# Altium integrated library STMicro-STM32F0.IntLib: 143 symbols (part 5 of 11)
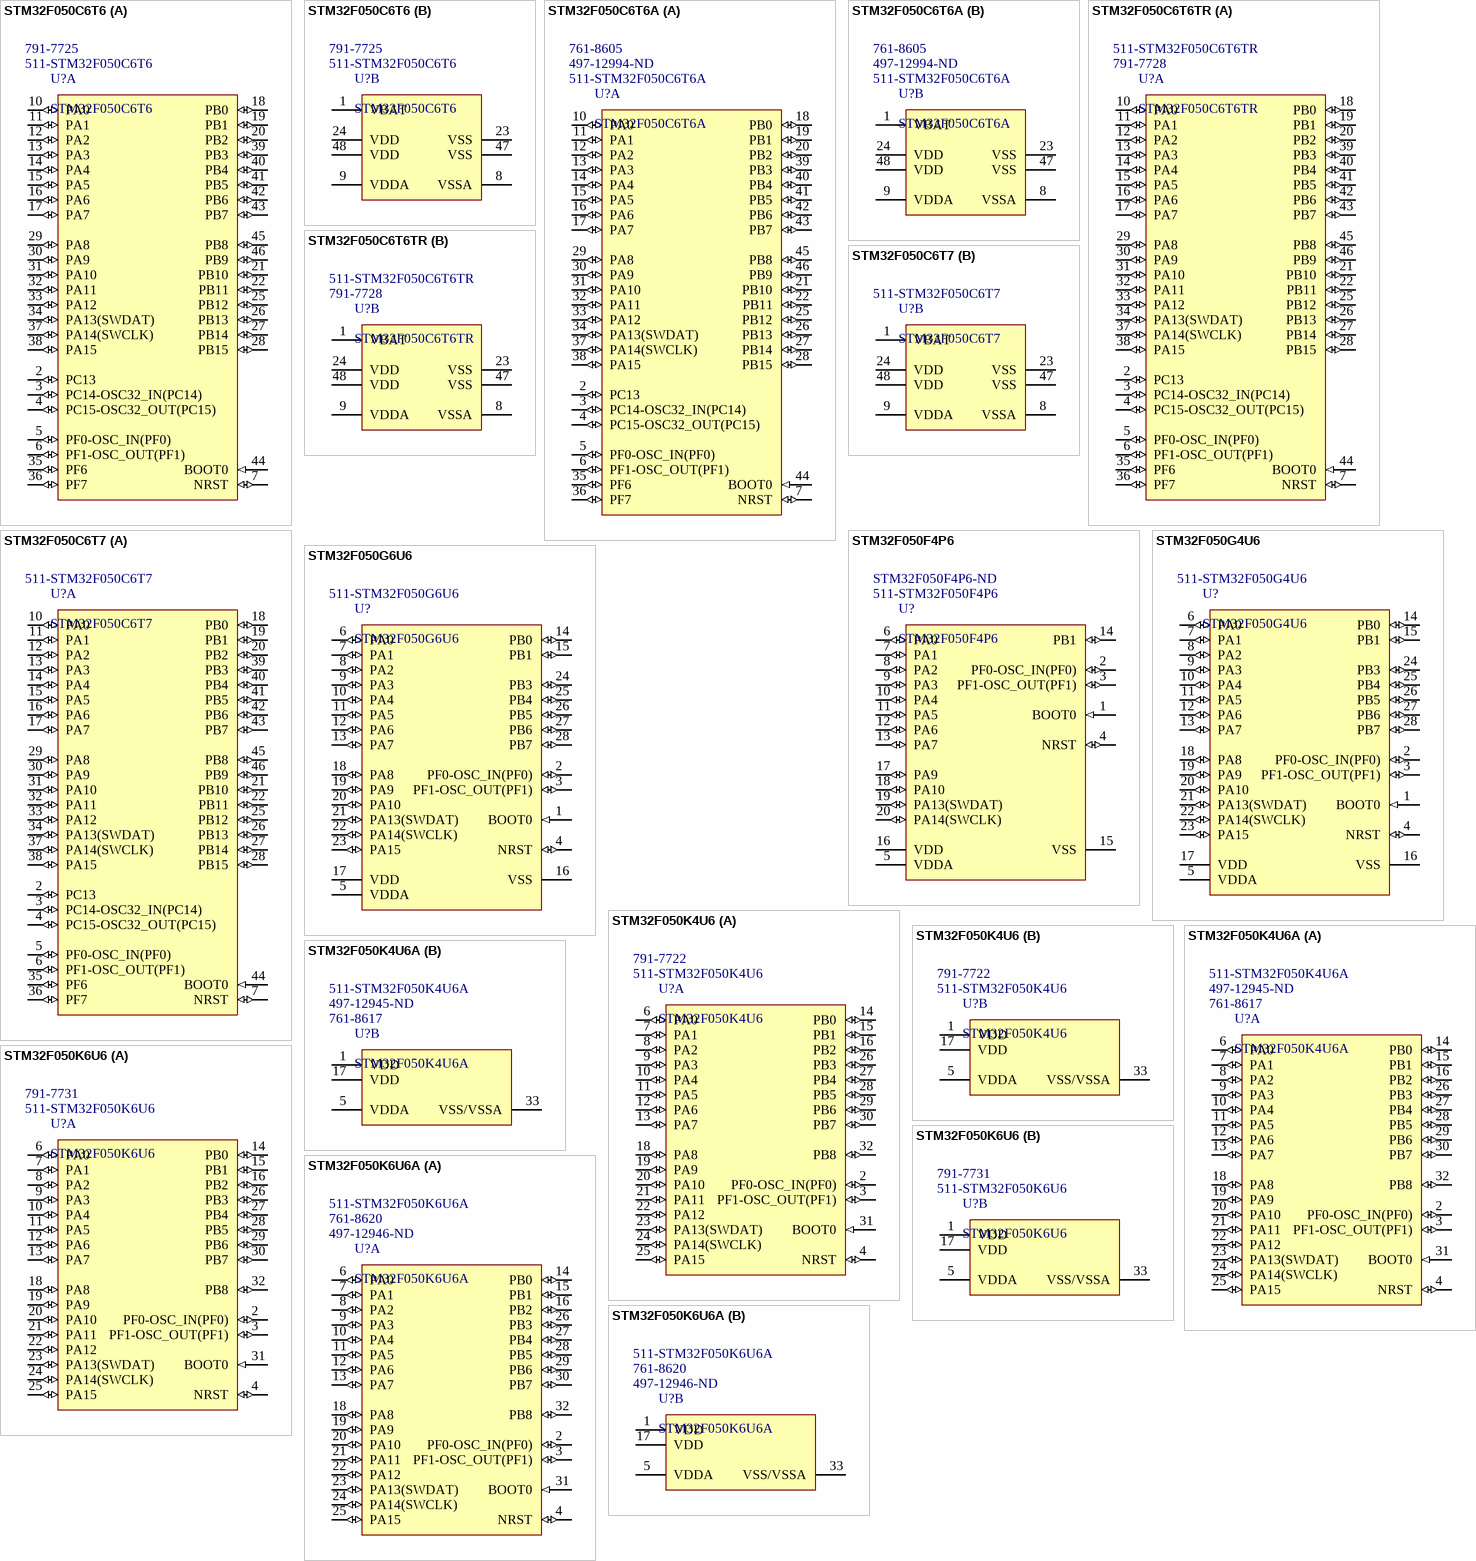
[diagram p18: symbols STM32F050C6T6 to STM32F050K6U6A]

## STM32F050C6T6TR
designator U?  Supplier Part Number 1: 791-7728  Supplier Part Number 2: 511-STM32F050C6T6TR
ARM Cortex-M0 32-bit MCU, 32 KB Flash, 4 KB Internal RAM, 39 I/Os, 48-pin LQFP, -40 to 85 degC, Tape and Reel; FLASH Size (Prog) (kB): 32; Internal RAM Size (kB): 4; Operating Frequency(F) (Processor speed) (MHz): 48; I/Os (High Current): 39; Supply Voltage(Vcc) min (V): 2; ComponentLink1Description: Manufacturer URL; Packing: Tape and Reel; ComponentLink3Description: Package Specification; PackageVersion: Rev. 6, 06/2013; Mounting Technology: Surface Mount; PackageDescription: 48-Pin Low Profile Quad Flat Package, 7 x 7 mm Body, 0.5 mm Pitch; ComponentLink2URL: http://www.st.com/st-web-ui/static/active/en/resource/technical/document/datasheet/DM00065136.pdf; ComponentLink2Description: Datasheet; ComponentLink3URL: http://www.st.com/st-web-ui/static/active/en/resource/technical/document/datasheet/DM00058181.pdf; ComponentLink1URL: http://www.st.com/web/en/home.html; Core: ARM Cortex-M0; PackageReference: LQFP48; DatasheetVersion: Rev. 1; PartNumber: STM32F050C6T6TR; Supplier 1: RSComponents; Supplier 2: Mouser
footprint STM-LQFP48_L (QFP, 48-Leads, Body 7x7mm, Pitch 0.5mm, IPC High Density)
footprint STM-LQFP48_N (QFP, 48-Leads, Body 7x7mm, Pitch 0.5mm, IPC Medium Density)
footprint STM-LQFP48_M (QFP, 48-Leads, Body 7x7mm, Pitch 0.5mm, IPC Low Density)
part A pins: 2 PC13 (io) "PC13/RTC_TAMP1,RTC_TS,RTC_OUT,WKUP2", 3 PC14-OSC32_IN(PC14) (io) "PC14-OSC32_IN(PC14)/OSC32_IN", 4 PC15-OSC32_OUT(PC15) (io) "PC15-OSC32_OUT(PC15)/OSC32_OUT", 5 PF0-OSC_IN(PF0) (io) "PF0-OSC_IN(PF0)/OSC_IN", 6 PF1-OSC_OUT(PF1) (io) "PF1-OSC_OUT(PF1)/OSC_OUT", 7 NRST (io) "Device reset input / internal reset output (active low)", 10 PA0 (io) "PA0/TIM2_CH1_ETR,USART1_CTS/ADC_IN0,RTC_TAMP2,WKUP1", 11 PA1 (io) "PA1/TIM2_CH2,EVENTOUT,USART1_RTS/ADC_IN1", 12 PA2 (io) "PA2/TIM2_CH3,USART1_TX/ADC_IN2", 13 PA3 (io) "PA3/TIM2_CH4,USART1_RX/ADC_IN3", 14 PA4 (io) "PA4/SPI1_NSS,I2S1_WS,TIM14_CH1,USART1_CK/ADC_IN4", 15 PA5 (io) "PA5/SPI1_SCK,I2S1_CK,TIM2_CH1_ETR/ADC_IN5", 16 PA6 (io) "PA6/SPI1_MISO,I2S1_MCK,TIM3_CH1,TIM1_BKIN,TIM16_CH1,EVENTOUT/ADC_IN6", 17 PA7 (io) "PA7/SPI1_MOSI,I2S1_SD,TIM3_CH2,TIM14_CH1,TIM1_CH1N,TIM17_CH1,EVENTOUT/ADC_IN7", 18 PB0 (io) "PB0/TIM3_CH3,TIM1_CH2N,EVENTOUT/ADC_IN8", 19 PB1 (io) "PB1/TIM3_CH4,TIM14_CH1,TIM1_CH3N/ADC_IN9", 20 PB2 (io), 21 PB10 (io) "PB10/TIM2_CH3,I2C1_SCL", 22 PB11 (io) "PB11/TIM2_CH4,EVENTOUT,I2C1_SDA", 25 PB12 (io) "PB12/TIM1_BKIN,EVENTOUT,SPI1_NSS", 26 PB13 (io) "PB13/TIM1_CH1N,SPI1_SCK", 27 PB14 (io) "PB14/TIM1_CH2N,SPI1_MISO", 28 PB15 (io) "PB15/TIM1_CH3N,SPI1_MOSI/RTC_REFIN", 29 PA8 (io) "PA8/USART1_CK,TIM1_CH1,EVENTOUT,MCO", 30 PA9 (io) "PA9/USART1_TX,TIM1_CH2,I2C1_SCL", 31 PA10 (io) "PA10/USART1_RX,TIM1_CH3,TIM17_BKIN,I2C1_SDA", 32 PA11 (io) "PA11/USART1_CTS,TIM1_CH4,EVENTOUT", 33 PA12 (io) "PA12/USART1_RTS,TIM1_ETR,EVENTOUT", 34 PA13(SWDAT) (io) "PA13(SWDAT)/IR_OUT,SWDAT", 35 PF6 (io) "PF6/I2C1_SCL", 36 PF7 (io) "PF7/I2C1_SDA", 37 PA14(SWCLK) (io) "PA14(SWCLK)/SWCLK,USART1_TX", 38 PA15 (io) "PA15/SPI1_NSS,I2S1_WS,TIM2_CH_ETR,EVENTOUT,USART1_RX", 39 PB3 (io) "PB3/SPI1_SCK,I2S1_CK,TIM2_CH2,EVENTOUT", 40 PB4 (io) "PB4/SPI1_MISO,I2S1_MCK,TIM3_CH1,EVENTOUT", 41 PB5 (io) "PB5/SPI1_MOSI,I2S1_SD,I2C1_SMBA,TIM16_BKIN,TIM3_CH2", 42 PB6 (io) "PB6/I2C1_SCL,USART1_TX,TIM16_CH1N", 43 PB7 (io) "PB7/I2C1_SDA,USART1_RX,TIM17_CH1N", 44 BOOT0 (in) "Boot memory selection", 45 PB8 (io) "PB8/I2C1_SCL,TIM16_CH1", 46 PB9 (io) "PB9/I2C1_SDA,IR_OUT,TIM17_CH1,EVENTOUT"
part B pins: 1 VBAT (power) "Backup power supply", 8 VSSA (power) "Analog ground", 9 VDDA (power) "Analog power supply", 23 VSS (power) "Ground", 24 VDD (power) "Digital power supply", 47 VSS (power) "Ground", 48 VDD (power) "Digital power supply"

## STM32F050C6T7
designator U?  Supplier Part Number 1: 511-STM32F050C6T7
ARM Cortex-M0 32-bit MCU, 32 KB Flash, 4 KB Internal RAM, 39 I/Os, 48-pin LQFP, -40 to 105 degC, Tray; Supply Voltage(Vcc) min (V): 2; FLASH Size (Prog) (kB): 32; I/Os (High Current): 39; Operating Frequency(F) (Processor speed) (MHz): 48; Internal RAM Size (kB): 4; ComponentLink2URL: http://www.st.com/st-web-ui/static/active/en/resource/technical/document/datasheet/DM00065136.pdf; ComponentLink1Description: Manufacturer URL; Packing: Tray; Mounting Technology: Surface Mount; DatasheetVersion: Rev. 1; PackageVersion: Rev. 6, 06/2013; PackageDescription: 48-Pin Low Profile Quad Flat Package, 7 x 7 mm Body, 0.5 mm Pitch; PartNumber: STM32F050C6T7; ComponentLink1URL: http://www.st.com/web/en/home.html; PackageReference: LQFP48; Core: ARM Cortex-M0; ComponentLink3URL: http://www.st.com/st-web-ui/static/active/en/resource/technical/document/datasheet/DM00058181.pdf; ComponentLink2Description: Datasheet; ComponentLink3Description: Package Specification; Supplier 1: Mouser
footprint STM-LQFP48_L (QFP, 48-Leads, Body 7x7mm, Pitch 0.5mm, IPC High Density)
footprint STM-LQFP48_N (QFP, 48-Leads, Body 7x7mm, Pitch 0.5mm, IPC Medium Density)
footprint STM-LQFP48_M (QFP, 48-Leads, Body 7x7mm, Pitch 0.5mm, IPC Low Density)
part A pins: 2 PC13 (io) "PC13/RTC_TAMP1,RTC_TS,RTC_OUT,WKUP2", 3 PC14-OSC32_IN(PC14) (io) "PC14-OSC32_IN(PC14)/OSC32_IN", 4 PC15-OSC32_OUT(PC15) (io) "PC15-OSC32_OUT(PC15)/OSC32_OUT", 5 PF0-OSC_IN(PF0) (io) "PF0-OSC_IN(PF0)/OSC_IN", 6 PF1-OSC_OUT(PF1) (io) "PF1-OSC_OUT(PF1)/OSC_OUT", 7 NRST (io) "Device reset input / internal reset output (active low)", 10 PA0 (io) "PA0/TIM2_CH1_ETR,USART1_CTS/ADC_IN0,RTC_TAMP2,WKUP1", 11 PA1 (io) "PA1/TIM2_CH2,EVENTOUT,USART1_RTS/ADC_IN1", 12 PA2 (io) "PA2/TIM2_CH3,USART1_TX/ADC_IN2", 13 PA3 (io) "PA3/TIM2_CH4,USART1_RX/ADC_IN3", 14 PA4 (io) "PA4/SPI1_NSS,I2S1_WS,TIM14_CH1,USART1_CK/ADC_IN4", 15 PA5 (io) "PA5/SPI1_SCK,I2S1_CK,TIM2_CH1_ETR/ADC_IN5", 16 PA6 (io) "PA6/SPI1_MISO,I2S1_MCK,TIM3_CH1,TIM1_BKIN,TIM16_CH1,EVENTOUT/ADC_IN6", 17 PA7 (io) "PA7/SPI1_MOSI,I2S1_SD,TIM3_CH2,TIM14_CH1,TIM1_CH1N,TIM17_CH1,EVENTOUT/ADC_IN7", 18 PB0 (io) "PB0/TIM3_CH3,TIM1_CH2N,EVENTOUT/ADC_IN8", 19 PB1 (io) "PB1/TIM3_CH4,TIM14_CH1,TIM1_CH3N/ADC_IN9", 20 PB2 (io), 21 PB10 (io) "PB10/TIM2_CH3,I2C1_SCL", 22 PB11 (io) "PB11/TIM2_CH4,EVENTOUT,I2C1_SDA", 25 PB12 (io) "PB12/TIM1_BKIN,EVENTOUT,SPI1_NSS", 26 PB13 (io) "PB13/TIM1_CH1N,SPI1_SCK", 27 PB14 (io) "PB14/TIM1_CH2N,SPI1_MISO", 28 PB15 (io) "PB15/TIM1_CH3N,SPI1_MOSI/RTC_REFIN", 29 PA8 (io) "PA8/USART1_CK,TIM1_CH1,EVENTOUT,MCO", 30 PA9 (io) "PA9/USART1_TX,TIM1_CH2,I2C1_SCL", 31 PA10 (io) "PA10/USART1_RX,TIM1_CH3,TIM17_BKIN,I2C1_SDA", 32 PA11 (io) "PA11/USART1_CTS,TIM1_CH4,EVENTOUT", 33 PA12 (io) "PA12/USART1_RTS,TIM1_ETR,EVENTOUT", 34 PA13(SWDAT) (io) "PA13(SWDAT)/IR_OUT,SWDAT", 35 PF6 (io) "PF6/I2C1_SCL", 36 PF7 (io) "PF7/I2C1_SDA", 37 PA14(SWCLK) (io) "PA14(SWCLK)/SWCLK,USART1_TX", 38 PA15 (io) "PA15/SPI1_NSS,I2S1_WS,TIM2_CH_ETR,EVENTOUT,USART1_RX", 39 PB3 (io) "PB3/SPI1_SCK,I2S1_CK,TIM2_CH2,EVENTOUT", 40 PB4 (io) "PB4/SPI1_MISO,I2S1_MCK,TIM3_CH1,EVENTOUT", 41 PB5 (io) "PB5/SPI1_MOSI,I2S1_SD,I2C1_SMBA,TIM16_BKIN,TIM3_CH2", 42 PB6 (io) "PB6/I2C1_SCL,USART1_TX,TIM16_CH1N", 43 PB7 (io) "PB7/I2C1_SDA,USART1_RX,TIM17_CH1N", 44 BOOT0 (in) "Boot memory selection", 45 PB8 (io) "PB8/I2C1_SCL,TIM16_CH1", 46 PB9 (io) "PB9/I2C1_SDA,IR_OUT,TIM17_CH1,EVENTOUT"
part B pins: 1 VBAT (power) "Backup power supply", 8 VSSA (power) "Analog ground", 9 VDDA (power) "Analog power supply", 23 VSS (power) "Ground", 24 VDD (power) "Digital power supply", 47 VSS (power) "Ground", 48 VDD (power) "Digital power supply"

## STM32F050F4P6
designator U?  Supplier Part Number 1: 511-STM32F050F4P6  Supplier Part Number 2: STM32F050F4P6-ND
ARM Cortex-M0 32-bit MCU, 16 KB Flash, 4 KB Internal RAM, 15 I/Os, 20-pin TSSOP, -40 to 85 degC, Tube; Supply Voltage(Vcc) min (V): 2; Internal RAM Size (kB): 4; I/Os (High Current): 15; Operating Frequency(F) (Processor speed) (MHz): 48; FLASH Size (Prog) (kB): 16; ComponentLink2Description: Datasheet; PackageDescription: 20-Pin Thin Shrink Small Outline Package, 6.5 x 4.4 mm Body, 0.65 mm Pitch; ComponentLink1Description: Manufacturer URL; Packing: Tube; DatasheetVersion: Rev. 1; Mounting Technology: Surface Mount; ComponentLink3Description: Package Specification; PartNumber: STM32F050F4P6; PackageVersion: Rev. 1, 11/2012; Core: ARM Cortex-M0; ComponentLink3URL: http://www.st.com/st-web-ui/static/active/en/resource/technical/document/datasheet/DM00065136.pdf; PackageReference: TSSOP20; ComponentLink2URL: http://www.st.com/st-web-ui/static/active/en/resource/technical/document/datasheet/DM00065136.pdf; ComponentLink1URL: http://www.st.com/web/en/home.html; Supplier 1: Mouser; Supplier 2: Digi-Key
footprint STM-TSSOP20_M (SOP, 20-Leads, Body 6.6x4.5mm, Pitch 0.65mm, IPC Low Density)
footprint STM-TSSOP20_L (SOP, 20-Leads, Body 6.6x4.5mm, Pitch 0.65mm, IPC High Density)
footprint STM-TSSOP20_N (SOP, 20-Leads, Body 6.6x4.5mm, Pitch 0.65mm, IPC Medium Density)
pins: 1 BOOT0 (in) "Boot memory selection", 2 PF0-OSC_IN(PF0) (io) "PF0-OSC_IN(PF0)/OSC_IN", 3 PF1-OSC_OUT(PF1) (io) "PF1-OSC_OUT(PF1)/OSC_OUT", 4 NRST (io) "Device reset input / internal reset output (active low)", 5 VDDA (power) "Analog power supply", 6 PA0 (io) "PA0/TIM2_CH1_ETR,USART1_CTS/ADC_IN0,RTC_TAMP2,WKUP1", 7 PA1 (io) "PA1/TIM2_CH2,EVENTOUT,USART1_RTS/ADC_IN1", 8 PA2 (io) "PA2/TIM2_CH3,USART1_TX/ADC_IN2", 9 PA3 (io) "PA3/TIM2_CH4,USART1_RX/ADC_IN3", 10 PA4 (io) "PA4/SPI1_NSS,I2S1_WS,TIM14_CH1,USART1_CK/ADC_IN4", 11 PA5 (io) "PA5/SPI1_SCK,I2S1_CK,TIM2_CH1_ETR/ADC_IN5", 12 PA6 (io) "PA6/SPI1_MISO,I2S1_MCK,TIM3_CH1,TIM1_BKIN,TIM16_CH1,EVENTOUT/ADC_IN6", 13 PA7 (io) "PA7/SPI1_MOSI,I2S1_SD,TIM3_CH2,TIM14_CH1,TIM1_CH1N,TIM17_CH1,EVENTOUT/ADC_IN7", 14 PB1 (io) "PB1/TIM3_CH4,TIM14_CH1,TIM1_CH3N/ADC_IN9", 15 VSS (power) "Ground", 16 VDD (power) "Digital power supply", 17 PA9 (io) "PA9/USART1_TX,TIM1_CH2,I2C1_SCL", 18 PA10 (io) "PA10/USART1_RX,TIM1_CH3,TIM17_BKIN,I2C1_SDA", 19 PA13(SWDAT) (io) "PA13(SWDAT)/IR_OUT,SWDAT", 20 PA14(SWCLK) (io) "PA14(SWCLK)/SWCLK,USART1_TX"

## STM32F050G4U6
designator U?  Supplier Part Number 1: 511-STM32F050G4U6
ARM Cortex-M0 32-bit MCU, 16 KB Flash, 4 KB Internal RAM, 23 I/Os, 28-pin UFQFPN, -40 to 85 degC, Tray; Internal RAM Size (kB): 4; FLASH Size (Prog) (kB): 16; Operating Frequency(F) (Processor speed) (MHz): 48; I/Os (High Current): 23; Supply Voltage(Vcc) min (V): 2; ComponentLink2URL: http://www.st.com/st-web-ui/static/active/en/resource/technical/document/datasheet/DM00065136.pdf; DatasheetVersion: Rev. 1; ComponentLink3URL: http://www.st.com/st-web-ui/static/active/en/resource/technical/document/datasheet/DM00065136.pdf; Packing: Tray; PackageVersion: Rev. 1, 11/2012; PackageDescription: 28-Pin Ultra Thin Fine Pitch Quad Flat No-Lead, 4 x 4 x 0.6 mm Body, 0.5 mm Pitch; Core: ARM Cortex-M0; ComponentLink2Description: Datasheet; ComponentLink1URL: http://www.st.com/web/en/home.html; ComponentLink3Description: Package Specification; PackageReference: UFQFPN28; Mounting Technology: Surface Mount; PartNumber: STM32F050G4U6; ComponentLink1Description: Manufacturer URL; Supplier 1: Mouser
footprint STM-UFQFPN28_V (QFN, 28-Leads, Body 4.1x4.1mm, Pitch 0.5mm)
pins: 1 BOOT0 (in) "Boot memory selection", 2 PF0-OSC_IN(PF0) (io) "PF0-OSC_IN(PF0)/OSC_IN", 3 PF1-OSC_OUT(PF1) (io) "PF1-OSC_OUT(PF1)/OSC_OUT", 4 NRST (io) "Device reset input / internal reset output (active low)", 5 VDDA (power) "Analog power supply", 6 PA0 (io) "PA0/TIM2_CH1_ETR,USART1_CTS/ADC_IN0,RTC_TAMP2,WKUP1", 7 PA1 (io) "PA1/TIM2_CH2,EVENTOUT,USART1_RTS/ADC_IN1", 8 PA2 (io) "PA2/TIM2_CH3,USART1_TX/ADC_IN2", 9 PA3 (io) "PA3/TIM2_CH4,USART1_RX/ADC_IN3", 10 PA4 (io) "PA4/SPI1_NSS,I2S1_WS,TIM14_CH1,USART1_CK/ADC_IN4", 11 PA5 (io) "PA5/SPI1_SCK,I2S1_CK,TIM2_CH1_ETR/ADC_IN5", 12 PA6 (io) "PA6/SPI1_MISO,I2S1_MCK,TIM3_CH1,TIM1_BKIN,TIM16_CH1,EVENTOUT/ADC_IN6", 13 PA7 (io) "PA7/SPI1_MOSI,I2S1_SD,TIM3_CH2,TIM14_CH1,TIM1_CH1N,TIM17_CH1,EVENTOUT/ADC_IN7", 14 PB0 (io) "PB0/TIM3_CH3,TIM1_CH2N,EVENTOUT/ADC_IN8", 15 PB1 (io) "PB1/TIM3_CH4,TIM14_CH1,TIM1_CH3N/ADC_IN9", 16 VSS (power) "Ground", 17 VDD (power) "Digital power supply", 18 PA8 (io) "PA8/USART1_CK,TIM1_CH1,EVENTOUT,MCO", 19 PA9 (io) "PA9/USART1_TX,TIM1_CH2,I2C1_SCL", 20 PA10 (io) "PA10/USART1_RX,TIM1_CH3,TIM17_BKIN,I2C1_SDA", 21 PA13(SWDAT) (io) "PA13(SWDAT)/IR_OUT,SWDAT", 22 PA14(SWCLK) (io) "PA14(SWCLK)/SWCLK,USART1_TX", 23 PA15 (io) "PA15/SPI1_NSS,I2S1_WS,TIM2_CH_ETR,EVENTOUT,USART1_RX", 24 PB3 (io) "PB3/SPI1_SCK,I2S1_CK,TIM2_CH2,EVENTOUT", 25 PB4 (io) "PB4/SPI1_MISO,I2S1_MCK,TIM3_CH1,EVENTOUT", 26 PB5 (io) "PB5/SPI1_MOSI,I2S1_SD,I2C1_SMBA,TIM16_BKIN,TIM3_CH2", 27 PB6 (io) "PB6/I2C1_SCL,USART1_TX,TIM16_CH1N", 28 PB7 (io) "PB7/I2C1_SDA,USART1_RX,TIM17_CH1N"

## STM32F050G6U6
designator U?  Supplier Part Number 1: 511-STM32F050G6U6
ARM Cortex-M0 32-bit MCU, 32 KB Flash, 4 KB Internal RAM, 23 I/Os, 28-pin UFQFPN, -40 to 85 degC, Tray; Supply Voltage(Vcc) min (V): 2; Internal RAM Size (kB): 4; Operating Frequency(F) (Processor speed) (MHz): 48; FLASH Size (Prog) (kB): 32; I/Os (High Current): 23; ComponentLink1URL: http://www.st.com/web/en/home.html; Mounting Technology: Surface Mount; PackageDescription: 28-Pin Ultra Thin Fine Pitch Quad Flat No-Lead, 4 x 4 x 0.6 mm Body, 0.5 mm Pitch; PackageVersion: Rev. 1, 11/2012; Packing: Tray; ComponentLink1Description: Manufacturer URL; ComponentLink3Description: Package Specification; PackageReference: UFQFPN28; Core: ARM Cortex-M0; ComponentLink2Description: Datasheet; ComponentLink2URL: http://www.st.com/st-web-ui/static/active/en/resource/technical/document/datasheet/DM00065136.pdf; ComponentLink3URL: http://www.st.com/st-web-ui/static/active/en/resource/technical/document/datasheet/DM00065136.pdf; PartNumber: STM32F050G6U6; DatasheetVersion: Rev. 1; Supplier 1: Mouser
footprint STM-UFQFPN28_V (QFN, 28-Leads, Body 4.1x4.1mm, Pitch 0.5mm)
pins: 1 BOOT0 (in) "Boot memory selection", 2 PF0-OSC_IN(PF0) (io) "PF0-OSC_IN(PF0)/OSC_IN", 3 PF1-OSC_OUT(PF1) (io) "PF1-OSC_OUT(PF1)/OSC_OUT", 4 NRST (io) "Device reset input / internal reset output (active low)", 5 VDDA (power) "Analog power supply", 6 PA0 (io) "PA0/TIM2_CH1_ETR,USART1_CTS/ADC_IN0,RTC_TAMP2,WKUP1", 7 PA1 (io) "PA1/TIM2_CH2,EVENTOUT,USART1_RTS/ADC_IN1", 8 PA2 (io) "PA2/TIM2_CH3,USART1_TX/ADC_IN2", 9 PA3 (io) "PA3/TIM2_CH4,USART1_RX/ADC_IN3", 10 PA4 (io) "PA4/SPI1_NSS,I2S1_WS,TIM14_CH1,USART1_CK/ADC_IN4", 11 PA5 (io) "PA5/SPI1_SCK,I2S1_CK,TIM2_CH1_ETR/ADC_IN5", 12 PA6 (io) "PA6/SPI1_MISO,I2S1_MCK,TIM3_CH1,TIM1_BKIN,TIM16_CH1,EVENTOUT/ADC_IN6", 13 PA7 (io) "PA7/SPI1_MOSI,I2S1_SD,TIM3_CH2,TIM14_CH1,TIM1_CH1N,TIM17_CH1,EVENTOUT/ADC_IN7", 14 PB0 (io) "PB0/TIM3_CH3,TIM1_CH2N,EVENTOUT/ADC_IN8", 15 PB1 (io) "PB1/TIM3_CH4,TIM14_CH1,TIM1_CH3N/ADC_IN9", 16 VSS (power) "Ground", 17 VDD (power) "Digital power supply", 18 PA8 (io) "PA8/USART1_CK,TIM1_CH1,EVENTOUT,MCO", 19 PA9 (io) "PA9/USART1_TX,TIM1_CH2,I2C1_SCL", 20 PA10 (io) "PA10/USART1_RX,TIM1_CH3,TIM17_BKIN,I2C1_SDA", 21 PA13(SWDAT) (io) "PA13(SWDAT)/IR_OUT,SWDAT", 22 PA14(SWCLK) (io) "PA14(SWCLK)/SWCLK,USART1_TX", 23 PA15 (io) "PA15/SPI1_NSS,I2S1_WS,TIM2_CH_ETR,EVENTOUT,USART1_RX", 24 PB3 (io) "PB3/SPI1_SCK,I2S1_CK,TIM2_CH2,EVENTOUT", 25 PB4 (io) "PB4/SPI1_MISO,I2S1_MCK,TIM3_CH1,EVENTOUT", 26 PB5 (io) "PB5/SPI1_MOSI,I2S1_SD,I2C1_SMBA,TIM16_BKIN,TIM3_CH2", 27 PB6 (io) "PB6/I2C1_SCL,USART1_TX,TIM16_CH1N", 28 PB7 (io) "PB7/I2C1_SDA,USART1_RX,TIM17_CH1N"

## STM32F050K4U6
designator U?  Supplier Part Number 1: 511-STM32F050K4U6  Supplier Part Number 2: 791-7722
ARM Cortex-M0 32-bit MCU, 16 KB Flash, 4 KB Internal RAM, 27 I/Os, 32-pin UFQFPN, -40 to 85 degC, Tray; FLASH Size (Prog) (kB): 16; Supply Voltage(Vcc) min (V): 2; I/Os (High Current): 27; Internal RAM Size (kB): 4; Operating Frequency(F) (Processor speed) (MHz): 48; ComponentLink1Description: Manufacturer URL; DatasheetVersion: Rev. 1; ComponentLink1URL: http://www.st.com/web/en/home.html; PackageDescription: 32-Pin Ultra Thin Fine Pitch Quad Flat No-Lead, 5 x 5 x 0.6 mm Body, 0.5 mm Pitch, Exposed Pad; ComponentLink3URL: http://www.st.com/st-web-ui/static/active/en/resource/technical/document/datasheet/DM00039193.pdf; Packing: Tray; ComponentLink3Description: Package Specification; PartNumber: STM32F050K4U6; ComponentLink2Description: Datasheet; Mounting Technology: Surface Mount; ComponentLink2URL: http://www.st.com/st-web-ui/static/active/en/resource/technical/document/datasheet/DM00065136.pdf; PackageReference: UFQFPN32; PackageVersion: Rev. 3, 07/2012; Core: ARM Cortex-M0; Supplier 1: Mouser; Supplier 2: RSComponents
footprint STM-UFQFPN32_N (QFN, 32-Leads, Body 5.1x5.1mm, Pitch 0.5mm, Thermal Pad 3.5x3.5mm, IPC Medium Density)
footprint STM-UFQFPN32_L (QFN, 32-Leads, Body 5.1x5.1mm, Pitch 0.5mm, Thermal Pad 3.5x3.5mm, IPC High Density)
footprint STM-UFQFPN32_M (QFN, 32-Leads, Body 5.1x5.1mm, Pitch 0.5mm, Thermal Pad 3.5x3.5mm, IPC Low Density)
part A pins: 2 PF0-OSC_IN(PF0) (io) "PF0-OSC_IN(PF0)/OSC_IN", 3 PF1-OSC_OUT(PF1) (io) "PF1-OSC_OUT(PF1)/OSC_OUT", 4 NRST (io) "Device reset input / internal reset output (active low)", 6 PA0 (io) "PA0/TIM2_CH1_ETR,USART1_CTS/ADC_IN0,RTC_TAMP2,WKUP1", 7 PA1 (io) "PA1/TIM2_CH2,EVENTOUT,USART1_RTS/ADC_IN1", 8 PA2 (io) "PA2/TIM2_CH3,USART1_TX/ADC_IN2", 9 PA3 (io) "PA3/TIM2_CH4,USART1_RX/ADC_IN3", 10 PA4 (io) "PA4/SPI1_NSS,I2S1_WS,TIM14_CH1,USART1_CK/ADC_IN4", 11 PA5 (io) "PA5/SPI1_SCK,I2S1_CK,TIM2_CH1_ETR/ADC_IN5", 12 PA6 (io) "PA6/SPI1_MISO,I2S1_MCK,TIM3_CH1,TIM1_BKIN,TIM16_CH1,EVENTOUT/ADC_IN6", 13 PA7 (io) "PA7/SPI1_MOSI,I2S1_SD,TIM3_CH2,TIM14_CH1,TIM1_CH1N,TIM17_CH1,EVENTOUT/ADC_IN7", 14 PB0 (io) "PB0/TIM3_CH3,TIM1_CH2N,EVENTOUT/ADC_IN8", 15 PB1 (io) "PB1/TIM3_CH4,TIM14_CH1,TIM1_CH3N/ADC_IN9", 16 PB2 (io), 18 PA8 (io) "PA8/USART1_CK,TIM1_CH1,EVENTOUT,MCO", 19 PA9 (io) "PA9/USART1_TX,TIM1_CH2,I2C1_SCL", 20 PA10 (io) "PA10/USART1_RX,TIM1_CH3,TIM17_BKIN,I2C1_SDA", 21 PA11 (io) "PA11/USART1_CTS,TIM1_CH4,EVENTOUT", 22 PA12 (io) "PA12/USART1_RTS,TIM1_ETR,EVENTOUT", 23 PA13(SWDAT) (io) "PA13(SWDAT)/IR_OUT,SWDAT", 24 PA14(SWCLK) (io) "PA14(SWCLK)/SWCLK,USART1_TX", 25 PA15 (io) "PA15/SPI1_NSS,I2S1_WS,TIM2_CH_ETR,EVENTOUT,USART1_RX", 26 PB3 (io) "PB3/SPI1_SCK,I2S1_CK,TIM2_CH2,EVENTOUT", 27 PB4 (io) "PB4/SPI1_MISO,I2S1_MCK,TIM3_CH1,EVENTOUT", 28 PB5 (io) "PB5/SPI1_MOSI,I2S1_SD,I2C1_SMBA,TIM16_BKIN,TIM3_CH2", 29 PB6 (io) "PB6/I2C1_SCL,USART1_TX,TIM16_CH1N", 30 PB7 (io) "PB7/I2C1_SDA,USART1_RX,TIM17_CH1N", 31 BOOT0 (in) "Boot memory selection", 32 PB8 (io) "PB8/I2C1_SCL,TIM16_CH1"
part B pins: 1 VDD (power) "Digital power supply", 5 VDDA (power) "Analog power supply", 17 VDD (power) "Digital power supply", 33 VSS/VSSA (power)

## STM32F050K4U6A
designator U?  Supplier Part Number 1: 761-8617  Supplier Part Number 2: 497-12945-ND  Supplier Part Number 3: 511-STM32F050K4U6A
ARM Cortex-M0 32-bit MCU, 16 KB Flash, 4 KB Internal RAM, 27 I/Os, 32-pin UFQFPN, -40 to 85 degC, Tray; I/Os (High Current): 27; Internal RAM Size (kB): 4; FLASH Size (Prog) (kB): 16; Operating Frequency(F) (Processor speed) (MHz): 48; Supply Voltage(Vcc) min (V): 2; PartNumber: STM32F050K4U6A; PackageVersion: Rev. 3, 07/2012; ComponentLink2Description: Datasheet; ComponentLink2URL: http://www.st.com/st-web-ui/static/active/en/resource/technical/document/datasheet/DM00065136.pdf; ComponentLink1Description: Manufacturer URL; Mounting Technology: Surface Mount; ComponentLink3Description: Package Specification; ComponentLink1URL: http://www.st.com/web/en/home.html; PackageReference: UFQFPN32; ComponentLink3URL: http://www.st.com/st-web-ui/static/active/en/resource/technical/document/datasheet/DM00039193.pdf; Packing: Tray; DatasheetVersion: Rev. 1; Core: ARM Cortex-M0; PackageDescription: 32-Pin Ultra Thin Fine Pitch Quad Flat No-Lead, 5 x 5 x 0.6 mm Body, 0.5 mm Pitch, Exposed Pad; Supplier 1: RSComponents; Supplier 2: Digi-Key; Supplier 3: Mouser
footprint STM-UFQFPN32_N (QFN, 32-Leads, Body 5.1x5.1mm, Pitch 0.5mm, Thermal Pad 3.5x3.5mm, IPC Medium Density)
footprint STM-UFQFPN32_L (QFN, 32-Leads, Body 5.1x5.1mm, Pitch 0.5mm, Thermal Pad 3.5x3.5mm, IPC High Density)
footprint STM-UFQFPN32_M (QFN, 32-Leads, Body 5.1x5.1mm, Pitch 0.5mm, Thermal Pad 3.5x3.5mm, IPC Low Density)
part A pins: 2 PF0-OSC_IN(PF0) (io) "PF0-OSC_IN(PF0)/OSC_IN", 3 PF1-OSC_OUT(PF1) (io) "PF1-OSC_OUT(PF1)/OSC_OUT", 4 NRST (io) "Device reset input / internal reset output (active low)", 6 PA0 (io) "PA0/TIM2_CH1_ETR,USART1_CTS/ADC_IN0,RTC_TAMP2,WKUP1", 7 PA1 (io) "PA1/TIM2_CH2,EVENTOUT,USART1_RTS/ADC_IN1", 8 PA2 (io) "PA2/TIM2_CH3,USART1_TX/ADC_IN2", 9 PA3 (io) "PA3/TIM2_CH4,USART1_RX/ADC_IN3", 10 PA4 (io) "PA4/SPI1_NSS,I2S1_WS,TIM14_CH1,USART1_CK/ADC_IN4", 11 PA5 (io) "PA5/SPI1_SCK,I2S1_CK,TIM2_CH1_ETR/ADC_IN5", 12 PA6 (io) "PA6/SPI1_MISO,I2S1_MCK,TIM3_CH1,TIM1_BKIN,TIM16_CH1,EVENTOUT/ADC_IN6", 13 PA7 (io) "PA7/SPI1_MOSI,I2S1_SD,TIM3_CH2,TIM14_CH1,TIM1_CH1N,TIM17_CH1,EVENTOUT/ADC_IN7", 14 PB0 (io) "PB0/TIM3_CH3,TIM1_CH2N,EVENTOUT/ADC_IN8", 15 PB1 (io) "PB1/TIM3_CH4,TIM14_CH1,TIM1_CH3N/ADC_IN9", 16 PB2 (io), 18 PA8 (io) "PA8/USART1_CK,TIM1_CH1,EVENTOUT,MCO", 19 PA9 (io) "PA9/USART1_TX,TIM1_CH2,I2C1_SCL", 20 PA10 (io) "PA10/USART1_RX,TIM1_CH3,TIM17_BKIN,I2C1_SDA", 21 PA11 (io) "PA11/USART1_CTS,TIM1_CH4,EVENTOUT", 22 PA12 (io) "PA12/USART1_RTS,TIM1_ETR,EVENTOUT", 23 PA13(SWDAT) (io) "PA13(SWDAT)/IR_OUT,SWDAT", 24 PA14(SWCLK) (io) "PA14(SWCLK)/SWCLK,USART1_TX", 25 PA15 (io) "PA15/SPI1_NSS,I2S1_WS,TIM2_CH_ETR,EVENTOUT,USART1_RX", 26 PB3 (io) "PB3/SPI1_SCK,I2S1_CK,TIM2_CH2,EVENTOUT", 27 PB4 (io) "PB4/SPI1_MISO,I2S1_MCK,TIM3_CH1,EVENTOUT", 28 PB5 (io) "PB5/SPI1_MOSI,I2S1_SD,I2C1_SMBA,TIM16_BKIN,TIM3_CH2", 29 PB6 (io) "PB6/I2C1_SCL,USART1_TX,TIM16_CH1N", 30 PB7 (io) "PB7/I2C1_SDA,USART1_RX,TIM17_CH1N", 31 BOOT0 (in) "Boot memory selection", 32 PB8 (io) "PB8/I2C1_SCL,TIM16_CH1"
part B pins: 1 VDD (power) "Digital power supply", 5 VDDA (power) "Analog power supply", 17 VDD (power) "Digital power supply", 33 VSS/VSSA (power)

## STM32F050K6U6
designator U?  Supplier Part Number 1: 511-STM32F050K6U6  Supplier Part Number 2: 791-7731
ARM Cortex-M0 32-bit MCU, 32 KB Flash, 4 KB Internal RAM, 27 I/Os, 32-pin UFQFPN, -40 to 85 degC, Tray; Internal RAM Size (kB): 4; I/Os (High Current): 27; Supply Voltage(Vcc) min (V): 2; FLASH Size (Prog) (kB): 32; Operating Frequency(F) (Processor speed) (MHz): 48; Core: ARM Cortex-M0; DatasheetVersion: Rev. 1; ComponentLink3Description: Package Specification; PackageReference: UFQFPN32; Packing: Tray; ComponentLink3URL: http://www.st.com/st-web-ui/static/active/en/resource/technical/document/datasheet/DM00039193.pdf; ComponentLink1URL: http://www.st.com/web/en/home.html; PackageVersion: Rev. 3, 07/2012; PartNumber: STM32F050K6U6; Mounting Technology: Surface Mount; PackageDescription: 32-Pin Ultra Thin Fine Pitch Quad Flat No-Lead, 5 x 5 x 0.6 mm Body, 0.5 mm Pitch, Exposed Pad; ComponentLink2URL: http://www.st.com/st-web-ui/static/active/en/resource/technical/document/datasheet/DM00065136.pdf; ComponentLink2Description: Datasheet; ComponentLink1Description: Manufacturer URL; Supplier 1: Mouser; Supplier 2: RSComponents
footprint STM-UFQFPN32_N (QFN, 32-Leads, Body 5.1x5.1mm, Pitch 0.5mm, Thermal Pad 3.5x3.5mm, IPC Medium Density)
footprint STM-UFQFPN32_L (QFN, 32-Leads, Body 5.1x5.1mm, Pitch 0.5mm, Thermal Pad 3.5x3.5mm, IPC High Density)
footprint STM-UFQFPN32_M (QFN, 32-Leads, Body 5.1x5.1mm, Pitch 0.5mm, Thermal Pad 3.5x3.5mm, IPC Low Density)
part A pins: 2 PF0-OSC_IN(PF0) (io) "PF0-OSC_IN(PF0)/OSC_IN", 3 PF1-OSC_OUT(PF1) (io) "PF1-OSC_OUT(PF1)/OSC_OUT", 4 NRST (io) "Device reset input / internal reset output (active low)", 6 PA0 (io) "PA0/TIM2_CH1_ETR,USART1_CTS/ADC_IN0,RTC_TAMP2,WKUP1", 7 PA1 (io) "PA1/TIM2_CH2,EVENTOUT,USART1_RTS/ADC_IN1", 8 PA2 (io) "PA2/TIM2_CH3,USART1_TX/ADC_IN2", 9 PA3 (io) "PA3/TIM2_CH4,USART1_RX/ADC_IN3", 10 PA4 (io) "PA4/SPI1_NSS,I2S1_WS,TIM14_CH1,USART1_CK/ADC_IN4", 11 PA5 (io) "PA5/SPI1_SCK,I2S1_CK,TIM2_CH1_ETR/ADC_IN5", 12 PA6 (io) "PA6/SPI1_MISO,I2S1_MCK,TIM3_CH1,TIM1_BKIN,TIM16_CH1,EVENTOUT/ADC_IN6", 13 PA7 (io) "PA7/SPI1_MOSI,I2S1_SD,TIM3_CH2,TIM14_CH1,TIM1_CH1N,TIM17_CH1,EVENTOUT/ADC_IN7", 14 PB0 (io) "PB0/TIM3_CH3,TIM1_CH2N,EVENTOUT/ADC_IN8", 15 PB1 (io) "PB1/TIM3_CH4,TIM14_CH1,TIM1_CH3N/ADC_IN9", 16 PB2 (io), 18 PA8 (io) "PA8/USART1_CK,TIM1_CH1,EVENTOUT,MCO", 19 PA9 (io) "PA9/USART1_TX,TIM1_CH2,I2C1_SCL", 20 PA10 (io) "PA10/USART1_RX,TIM1_CH3,TIM17_BKIN,I2C1_SDA", 21 PA11 (io) "PA11/USART1_CTS,TIM1_CH4,EVENTOUT", 22 PA12 (io) "PA12/USART1_RTS,TIM1_ETR,EVENTOUT", 23 PA13(SWDAT) (io) "PA13(SWDAT)/IR_OUT,SWDAT", 24 PA14(SWCLK) (io) "PA14(SWCLK)/SWCLK,USART1_TX", 25 PA15 (io) "PA15/SPI1_NSS,I2S1_WS,TIM2_CH_ETR,EVENTOUT,USART1_RX", 26 PB3 (io) "PB3/SPI1_SCK,I2S1_CK,TIM2_CH2,EVENTOUT", 27 PB4 (io) "PB4/SPI1_MISO,I2S1_MCK,TIM3_CH1,EVENTOUT", 28 PB5 (io) "PB5/SPI1_MOSI,I2S1_SD,I2C1_SMBA,TIM16_BKIN,TIM3_CH2", 29 PB6 (io) "PB6/I2C1_SCL,USART1_TX,TIM16_CH1N", 30 PB7 (io) "PB7/I2C1_SDA,USART1_RX,TIM17_CH1N", 31 BOOT0 (in) "Boot memory selection", 32 PB8 (io) "PB8/I2C1_SCL,TIM16_CH1"
part B pins: 1 VDD (power) "Digital power supply", 5 VDDA (power) "Analog power supply", 17 VDD (power) "Digital power supply", 33 VSS/VSSA (power)

## STM32F050K6U6A
designator U?  Supplier Part Number 1: 497-12946-ND  Supplier Part Number 2: 761-8620  Supplier Part Number 3: 511-STM32F050K6U6A
ARM Cortex-M0 32-bit MCU, 32 KB Flash, 4 KB Internal RAM, 27 I/Os, 32-pin UFQFPN, -40 to 85 degC, Tray; FLASH Size (Prog) (kB): 32; Internal RAM Size (kB): 4; Operating Frequency(F) (Processor speed) (MHz): 48; Supply Voltage(Vcc) min (V): 2; I/Os (High Current): 27; Packing: Tray; PackageVersion: Rev. 3, 07/2012; ComponentLink2Description: Datasheet; PartNumber: STM32F050K6U6A; Core: ARM Cortex-M0; ComponentLink1Description: Manufacturer URL; ComponentLink3Description: Package Specification; ComponentLink2URL: http://www.st.com/st-web-ui/static/active/en/resource/technical/document/datasheet/DM00065136.pdf; DatasheetVersion: Rev. 1; ComponentLink1URL: http://www.st.com/web/en/home.html; ComponentLink3URL: http://www.st.com/st-web-ui/static/active/en/resource/technical/document/datasheet/DM00039193.pdf; Mounting Technology: Surface Mount; PackageDescription: 32-Pin Ultra Thin Fine Pitch Quad Flat No-Lead, 5 x 5 x 0.6 mm Body, 0.5 mm Pitch, Exposed Pad; PackageReference: UFQFPN32; Supplier 1: Digi-Key; Supplier 2: RSComponents; Supplier 3: Mouser
footprint STM-UFQFPN32_N (QFN, 32-Leads, Body 5.1x5.1mm, Pitch 0.5mm, Thermal Pad 3.5x3.5mm, IPC Medium Density)
footprint STM-UFQFPN32_L (QFN, 32-Leads, Body 5.1x5.1mm, Pitch 0.5mm, Thermal Pad 3.5x3.5mm, IPC High Density)
footprint STM-UFQFPN32_M (QFN, 32-Leads, Body 5.1x5.1mm, Pitch 0.5mm, Thermal Pad 3.5x3.5mm, IPC Low Density)
part A pins: 2 PF0-OSC_IN(PF0) (io) "PF0-OSC_IN(PF0)/OSC_IN", 3 PF1-OSC_OUT(PF1) (io) "PF1-OSC_OUT(PF1)/OSC_OUT", 4 NRST (io) "Device reset input / internal reset output (active low)", 6 PA0 (io) "PA0/TIM2_CH1_ETR,USART1_CTS/ADC_IN0,RTC_TAMP2,WKUP1", 7 PA1 (io) "PA1/TIM2_CH2,EVENTOUT,USART1_RTS/ADC_IN1", 8 PA2 (io) "PA2/TIM2_CH3,USART1_TX/ADC_IN2", 9 PA3 (io) "PA3/TIM2_CH4,USART1_RX/ADC_IN3", 10 PA4 (io) "PA4/SPI1_NSS,I2S1_WS,TIM14_CH1,USART1_CK/ADC_IN4", 11 PA5 (io) "PA5/SPI1_SCK,I2S1_CK,TIM2_CH1_ETR/ADC_IN5", 12 PA6 (io) "PA6/SPI1_MISO,I2S1_MCK,TIM3_CH1,TIM1_BKIN,TIM16_CH1,EVENTOUT/ADC_IN6", 13 PA7 (io) "PA7/SPI1_MOSI,I2S1_SD,TIM3_CH2,TIM14_CH1,TIM1_CH1N,TIM17_CH1,EVENTOUT/ADC_IN7", 14 PB0 (io) "PB0/TIM3_CH3,TIM1_CH2N,EVENTOUT/ADC_IN8", 15 PB1 (io) "PB1/TIM3_CH4,TIM14_CH1,TIM1_CH3N/ADC_IN9", 16 PB2 (io), 18 PA8 (io) "PA8/USART1_CK,TIM1_CH1,EVENTOUT,MCO", 19 PA9 (io) "PA9/USART1_TX,TIM1_CH2,I2C1_SCL", 20 PA10 (io) "PA10/USART1_RX,TIM1_CH3,TIM17_BKIN,I2C1_SDA", 21 PA11 (io) "PA11/USART1_CTS,TIM1_CH4,EVENTOUT", 22 PA12 (io) "PA12/USART1_RTS,TIM1_ETR,EVENTOUT", 23 PA13(SWDAT) (io) "PA13(SWDAT)/IR_OUT,SWDAT", 24 PA14(SWCLK) (io) "PA14(SWCLK)/SWCLK,USART1_TX", 25 PA15 (io) "PA15/SPI1_NSS,I2S1_WS,TIM2_CH_ETR,EVENTOUT,USART1_RX", 26 PB3 (io) "PB3/SPI1_SCK,I2S1_CK,TIM2_CH2,EVENTOUT", 27 PB4 (io) "PB4/SPI1_MISO,I2S1_MCK,TIM3_CH1,EVENTOUT", 28 PB5 (io) "PB5/SPI1_MOSI,I2S1_SD,I2C1_SMBA,TIM16_BKIN,TIM3_CH2", 29 PB6 (io) "PB6/I2C1_SCL,USART1_TX,TIM16_CH1N", 30 PB7 (io) "PB7/I2C1_SDA,USART1_RX,TIM17_CH1N", 31 BOOT0 (in) "Boot memory selection", 32 PB8 (io) "PB8/I2C1_SCL,TIM16_CH1"
part B pins: 1 VDD (power) "Digital power supply", 5 VDDA (power) "Analog power supply", 17 VDD (power) "Digital power supply", 33 VSS/VSSA (power)

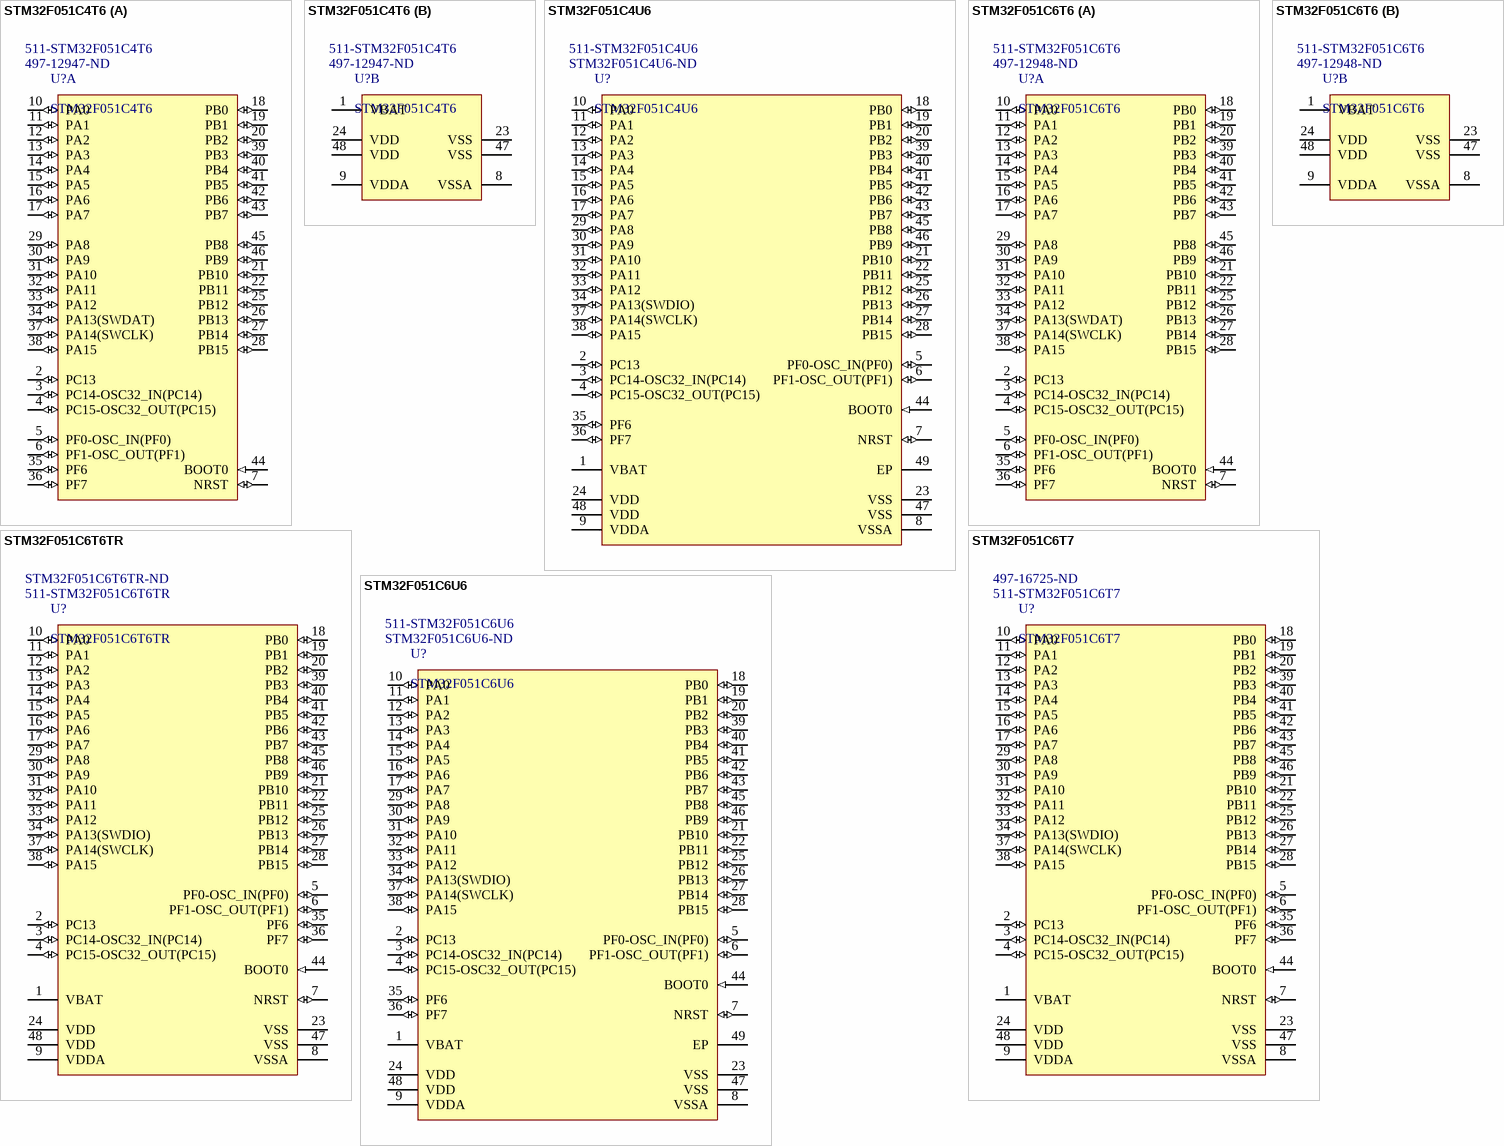
[diagram p6: symbols STM32F051C4T6 to STM32F051C6U6]

## STM32F051C4T6
designator U?  Supplier Part Number 1: 497-12947-ND  Supplier Part Number 2: 511-STM32F051C4T6
ARM Cortex-M0 32-bit MCU, 16 KB Flash, 4 KB Internal RAM, 39 I/Os, 48-pin LQFP, -40 to 85 degC, Tray; Internal RAM Size (kB): 4; Operating Frequency(F) (Processor speed) (MHz): 48; FLASH Size (Prog) (kB): 16; I/Os (High Current): 39; Supply Voltage(Vcc) min (V): 2; PartNumber: STM32F051C4T6; Packing: Tray; PackageVersion: Rev. 6, 06/2013; ComponentLink3Description: Package Specification; DatasheetVersion: Rev. 3; ComponentLink1Description: Manufacturer URL; ComponentLink2Description: Datasheet; ComponentLink2URL: http://www.st.com/st-web-ui/static/active/en/resource/technical/document/datasheet/DM00039193.pdf; ComponentLink3URL: http://www.st.com/st-web-ui/static/active/en/resource/technical/document/datasheet/DM00058181.pdf; PackageDescription: 48-Pin Low Profile Quad Flat Package, 7 x 7 mm Body, 0.5 mm Pitch; PackageReference: LQFP48; Core: ARM Cortex-M0; ComponentLink1URL: http://www.st.com/web/en/home.html; Mounting Technology: Surface Mount; Supplier 1: Digi-Key; Supplier 2: Mouser
footprint STM-LQFP48_L (QFP, 48-Leads, Body 7x7mm, Pitch 0.5mm, IPC High Density)
footprint STM-LQFP48_N (QFP, 48-Leads, Body 7x7mm, Pitch 0.5mm, IPC Medium Density)
footprint STM-LQFP48_M (QFP, 48-Leads, Body 7x7mm, Pitch 0.5mm, IPC Low Density)
part A pins: 2 PC13 (io) "PC13/RTC_TAMP1,RTC_TS,RTC_OUT,WKUP2", 3 PC14-OSC32_IN(PC14) (io) "PC14-OSC32_IN(PC14)/OSC32_IN", 4 PC15-OSC32_OUT(PC15) (io) "PC15-OSC32_OUT(PC15)/OSC32_OUT", 5 PF0-OSC_IN(PF0) (io) "PF0-OSC_IN(PF0)/OSC_IN", 6 PF1-OSC_OUT(PF1) (io) "PF1-OSC_OUT(PF1)/OSC_OUT", 7 NRST (io) "Device  reset  input  /  internal  reset  output  (active  low)", 10 PA0 (io) "PA0/USART2_CTS,TIM2_CH1_ETR,COMP1_OUT,TSC_G1_IO1/ADC_IN0,COMP1_INM6,RTC_TAMP2,WKUP1", 11 PA1 (io) "PA1/USART2_RTS,TIM2_CH2,TSC_G1_IO2,EVENTOUT/ADC_IN1,COMP1_INP", 12 PA2 (io) "PA2/USART2_TX,TIM2_CH3,TIM15_CH1,COMP2_OUT,TSC_G1_IO3/ADC_IN2,COMP2_INM6", 13 PA3 (io) "PA3/USART2_RX,TIM2_CH4,TIM15_CH2,TSC_G1_IO4/ADC_IN3,COMP2_INP", 14 PA4 (io) "PA4/SPI1_NSS/I2S1_WS,USART2_CK,TIM14_CH1,TSC_G2_IO1/ADC_IN4,COMP1_INM4,COMP2_INM4,DAC1_OUT", 15 PA5 (io) "PA5/SPI1_SCK/I2S1_CK,CEC,TIM2_CH1_ETR,TSC_G2_IO2/ADC_IN5,COMP1_INM5,COMP2_INM5", 16 PA6 (io) "PA6/SPI1_MISO/I2S1_MCK,TIM3_CH1,TIM1_BKIN,TIM16_CH1,COMP1_OUT,TSC_G2_IO3,EVENTOUT/ADC_IN6", 17 PA7 (io) "PA7/SPI1_MOSI/I2S1_SD,TIM3_CH2,TIM14_CH1,TIM1_CH1N,TIM17_CH1,COMP2_OUT,TSC_G2_IO4,EVENTOUT/ADC_IN7", 18 PB0 (io) "PB0/TIM3_CH3,TIM1_CH2N,TSC_G3_IO2,EVENTOUT/ADC_IN8", 19 PB1 (io) "PB1/TIM3_CH4,TIM14_CH1,TIM1_CH3N,TSC_G3_IO3/ADC_IN9", 20 PB2 (io) "PB2/TSC_G3_IO4", 21 PB10 (io) "PB10/I2C2_SCL,CEC,TIM2_CH3,TSC_SYNC", 22 PB11 (io) "PB11/I2C2_SDA,TIM2_CH4,TSC_G6_IO1,EVENTOUT", 25 PB12 (io) "PB12/SPI2_NSS,TIM1_BKIN,TSC_G6_IO2,EVENTOUT", 26 PB13 (io) "PB13/SPI2_SCK,TIM1_CH1N,TSC_G6_IO3", 27 PB14 (io) "PB14/SPI2_MISO,TIM1_CH2N,TIM15_CH1,TSC_G6_IO4", 28 PB15 (io) "PB15/SPI2_MOSI,TIM1_CH3N,TIM15_CH1N,TIM15_CH2/RTC_REFIN", 29 PA8 (io) "PA8/USART1_CK,TIM1_CH1,EVENTOUT,MCO", 30 PA9 (io) "PA9/USART1_TX,TIM1_CH2,TIM15_BKIN,TSC_G4_IO1", 31 PA10 (io) "PA10/USART1_RX,TIM1_CH3,TIM17_BKIN,TSC_G4_IO2", 32 PA11 (io) "PA11/USART1_CTS,TIM1_CH4,COMP1_OUT,TSC_G4_IO3,EVENTOUT", 33 PA12 (io) "PA12/USART1_RTS,TIM1_ETR,COMP2_OUT,TSC_G4_IO4,EVENTOUT", 34 PA13(SWDAT) (io) "PA13(SWDAT)/IR_OUT,SWDAT", 35 PF6 (io) "PF6/I2C2_SCL", 36 PF7 (io) "PF7/I2C2_SDA", 37 PA14(SWCLK) (io) "PA14(SWCLK)/USART2_TX,SWCLK", 38 PA15 (io) "PA15/SPI1_NSS/I2S1_WS,USART2_RX,TIM2_CH1_ETR,EVENTOUT", 39 PB3 (io) "PB3/SPI1_SCK/I2S1_CK,TIM2_CH2,TSC_G5_IO1,EVENTOUT", 40 PB4 (io) "PB4/SPI1_MISO/I2S1_MCK,TIM3_CH1,TSC_G5_IO2,EVENTOUT", 41 PB5 (io) "PB5/SPI1_MOSI,I2S1_SD,I2C1_SMBA,TIM16_BKIN,TIM3_CH2", 42 PB6 (io) "PB6/I2C1_SCL,USART1_TX,TIM16_CH1N,TSC_G5_IO3", 43 PB7 (io) "PB7/I2C1_SDA,USART1_RX,TIM17_CH1N,TSC_G5_IO4", 44 BOOT0 (in) "Boot memory selection", 45 PB8 (io) "PB8/I2C1_SCL,CEC,TIM16_CH1,TSC_SYNC", 46 PB9 (io) "PB9/I2C1_SDA,IR_OUT,TIM17_CH1,EVENTOUT"
part B pins: 1 VBAT (power) "Backup power supply", 8 VSSA (power) "Analog ground", 9 VDDA (power) "Analog power supply", 23 VSS (power) "Ground", 24 VDD (power) "Digital power supply", 47 VSS (power) "Ground", 48 VDD (power) "Digital power supply"

## STM32F051C4U6
designator U?  Supplier Part Number 1: STM32F051C4U6-ND  Supplier Part Number 2: 511-STM32F051C4U6
ARM Cortex-M0 32-bit MCU, 16 KB Flash, 8 KB Internal RAM, 39 I/Os, 48-Pin UFQFPN, -40 to 85 degC, Tray; FLASH Size (Prog) (kB): 16; D/A Converter: 1; Operating Frequency(F) (Processor speed) (MHz): 48; Supply Voltage(Vcc) min (V): 2; Internal RAM Size (kB): 8; I/Os (High Current): 39; Mounting Technology: Surface Mount; Packing: Tray; Package Reference: UFQFPN48; Core: ARM Cortex-M0; DatasheetVersion: Rev. 5; ComponentLink2Description: Datasheet; ComponentLink1URL: http://www.st.com/; Package Description: 48-Pin Ultra Thin Fine Pitch Quad Flat No-Lead, 7 x 7 x 0.6 mm Body, 0.5 mm Pitch, Exposed Pad; ComponentLink1Description: Manufacturer URL; ComponentLink2URL: http://www.st.com/st-web-ui/static/active/en/resource/technical/document/datasheet/DM00039193.pdf; Supplier 1: Digi-Key; Supplier 2: Mouser
footprint STM-UFQFPN48_L (QFN, 48-Leads, Body 7.1x7.1mm, Pitch 0.5mm, Thermal Pad 5.6x5.6mm, IPC High Density)
footprint STM-UFQFPN48_N (QFN, 48-Leads, Body 7.1x7.1mm, Pitch 0.5mm, Thermal Pad 5.6x5.6mm, IPC Medium Density)
footprint STM-UFQFPN48_M (QFN, 48-Leads, Body 7.1x7.1mm, Pitch 0.5mm, Thermal Pad 5.6x5.6mm, IPC Low Density)
pins: 1 VBAT (power) "Backup power supply", 2 PC13 (io) "PC13/RTC_TAMP1,RTC_TS,RTC_OUT,WKUP2", 3 PC14-OSC32_IN(PC14) (io) "PC14/OSC32_IN", 4 PC15-OSC32_OUT(PC15) (io) "PC15/OSC32_OUT", 5 PF0-OSC_IN(PF0) (io) "PF0/OSC_IN", 6 PF1-OSC_OUT(PF1) (io) "PF1/OSC_OUT", 7 NRST (io) "Device reset input/internal reset output(active low)", 8 VSSA (power) "Analog ground", 9 VDDA (power) "Analog power supply", 10 PA0 (io) "PA0/USART2_CTS,TIM2_CH1_ETR,COMP1_OUT,TSC_G1_IO1/ADC_IN0,COMP1_INM6,RTC_TAMP2,WKUP1", 11 PA1 (io) "PA1/USART2_RTS,TIM2_CH2,TSC_G1_IO2,EVENTOUT/ADC_IN1,COMP1_INP", 12 PA2 (io) "PA2/USART2_TX,TIM2_CH3,TIM15_CH1,COMP2_OUT,TSC_G1_IO3/ADC_IN2,COMP2_INM6", 13 PA3 (io) "PA3/USART2_RX,TIM2_CH4,TIM15_CH2,TSC_G1_IO4/ADC_IN3,COMP2_INP", 14 PA4 (io) "PA4/SPI1_NSS,I2S1_WS,USART2_CK,TIM14_CH1,TSC_G2_IO1/ADC_IN4,COMP1_INM4,COMP2_INM4,DAC_OUT1", 15 PA5 (io) "PA5/SPI1_SCK,I2S1_CK,CEC,TIM2_CH1_ETR,TSC_G2_IO2/ADC_IN5,COMP1_INM5,COMP2_INM5", 16 PA6 (io) "PA6/SPI1_MISO,I2S1_MCK,TIM3_CH1,TIM1_BKIN,TIM16_CH1,COMP1_OUT,TSC_G2_IO3,EVENTOUT/ADC_IN6", 17 PA7 (io) "PA7/SPI1_MOSI,I2S1_SD,TIM3_CH2,TIM14_CH1,TIM1_CH1N,TIM17_CH1,COMP2_OUT,TSC_G2_IO4,EVENTOUT/ADC_IN7", 18 PB0 (io) "PB0/TIM3_CH3,TIM1_CH2N,TSC_G3_IO2,EVENTOUT/ADC_IN8", 19 PB1 (io) "PB1/TIM3_CH4,TIM14_CH1,TIM1_CH3N,TSC_G3_IO3/ADC_IN9", 20 PB2 (io) "PB2/TSC_G3_IO4", 21 PB10 (io) "PB10/I2C2_SCL,CEC,TIM2_CH3,TSC_SYNC", 22 PB11 (io) "PB11/I2C2_SDA,TIM2_CH4,TSC_G6_IO1,EVENTOUT", 23 VSS (power) "Ground", 24 VDD (power) "Digital power supply", 25 PB12 (io) "PB12/SPI2_NSS,TIM1_BKIN,TSC_G6_IO2,EVENTOUT", 26 PB13 (io) "PB13/SPI2_SCK,TIM1_CH1N,TSC_G6_IO3", 27 PB14 (io) "PB14/SPI2_MISO,TIM1_CH2N,TIM15_CH1,TSC_G6_IO4", 28 PB15 (io) "PB15/SPI2_MOSI,TIM1_CH3N,TIM15_CH1N,TIM15_CH2/RTC_REFIN", 29 PA8 (io) "PA8/USART1_CK,TIM1_CH1,EVENTOUT,MCO", 30 PA9 (io) "PA9/USART1_TX,TIM1_CH2,TIM15_BKIN,TSC_G4_IO1", 31 PA10 (io) "PA10/USART1_RX,TIM1_CH3,TIM17_BKIN,TSC_G4_IO2", 32 PA11 (io) "PA11/USART1_CTS,TIM1_CH4,COMP1_OUT,TSC_G4_IO3,EVENTOUT", 33 PA12 (io) "PA12/USART1_RTS,TIM1_ETR,COMP2_OUT,TSC_G4_IO4,EVENTOUT", 34 PA13(SWDIO) (io) "PA13/IR_OUT,SWDIO", 35 PF6 (io) "PF6/I2C2_SCL", 36 PF7 (io) "PF7/I2C2_SDA", 37 PA14(SWCLK) (io) "PA14/USART2_TX,SWCLK", 38 PA15 (io) "PA15/SPI1_NSS,I2S1_WS,USART2_RX,TIM2_CH1_ETR,EVENTOUT", 39 PB3 (io) "PB3/SPI1_SCK,I2S1_CK,TIM2_CH2,TSC_G5_IO1,EVENTOUT", 40 PB4 (io) "PB4/SPI1_MISO,I2S1_MCK,TIM3_CH1,TSC_G5_IO2,EVENTOUT", 41 PB5 (io) "PB5/SPI1_MOSI,I2S1_SD,I2C1_SMBA,TIM16_BKIN,TIM3_CH2", 42 PB6 (io) "PB6/I2C1_SCL,USART1_TX,TIM16_CH1N,TSC_G5_IO3", 43 PB7 (io) "PB7/I2C1_SDA,USART1_RX,TIM17_CH1N,TSC_G5_IO4", 44 BOOT0 (in) "Boot memory selection", 45 PB8 (io) "PB8/I2C1_SCL,CEC,TIM16_CH1,TSC_SYNC", 46 PB9 (io) "PB9/I2C1_SDA,IR_OUT,TIM17_CH1,EVENTOUT", 47 VSS (power) "Ground", 48 VDD (power) "Digital power supply", 49 EP (power)

## STM32F051C6T6
designator U?  Supplier Part Number 1: 497-12948-ND  Supplier Part Number 2: 511-STM32F051C6T6
ARM Cortex-M0 32-bit MCU, 32 KB Flash, 4 KB Internal RAM, 39 I/Os, 48-pin LQFP, -40 to 85 degC, Tray; Internal RAM Size (kB): 4; Operating Frequency(F) (Processor speed) (MHz): 48; FLASH Size (Prog) (kB): 32; Supply Voltage(Vcc) min (V): 2; I/Os (High Current): 39; ComponentLink3URL: http://www.st.com/st-web-ui/static/active/en/resource/technical/document/datasheet/DM00058181.pdf; Mounting Technology: Surface Mount; PackageDescription: 48-Pin Low Profile Quad Flat Package, 7 x 7 mm Body, 0.5 mm Pitch; PackageReference: LQFP48; ComponentLink1Description: Manufacturer URL; ComponentLink1URL: http://www.st.com/web/en/home.html; Core: ARM Cortex-M0; ComponentLink2URL: http://www.st.com/st-web-ui/static/active/en/resource/technical/document/datasheet/DM00039193.pdf; PackageVersion: Rev. 6, 06/2013; ComponentLink2Description: Datasheet; PartNumber: STM32F051C6T6; ComponentLink3Description: Package Specification; Packing: Tray; DatasheetVersion: Rev. 3; Supplier 1: Digi-Key; Supplier 2: Mouser
footprint STM-LQFP48_L (QFP, 48-Leads, Body 7x7mm, Pitch 0.5mm, IPC High Density)
footprint STM-LQFP48_N (QFP, 48-Leads, Body 7x7mm, Pitch 0.5mm, IPC Medium Density)
footprint STM-LQFP48_M (QFP, 48-Leads, Body 7x7mm, Pitch 0.5mm, IPC Low Density)
part A pins: 2 PC13 (io) "PC13/RTC_TAMP1,RTC_TS,RTC_OUT,WKUP2", 3 PC14-OSC32_IN(PC14) (io) "PC14-OSC32_IN(PC14)/OSC32_IN", 4 PC15-OSC32_OUT(PC15) (io) "PC15-OSC32_OUT(PC15)/OSC32_OUT", 5 PF0-OSC_IN(PF0) (io) "PF0-OSC_IN(PF0)/OSC_IN", 6 PF1-OSC_OUT(PF1) (io) "PF1-OSC_OUT(PF1)/OSC_OUT", 7 NRST (io) "Device  reset  input  /  internal  reset  output  (active  low)", 10 PA0 (io) "PA0/USART2_CTS,TIM2_CH1_ETR,COMP1_OUT,TSC_G1_IO1/ADC_IN0,COMP1_INM6,RTC_TAMP2,WKUP1", 11 PA1 (io) "PA1/USART2_RTS,TIM2_CH2,TSC_G1_IO2,EVENTOUT/ADC_IN1,COMP1_INP", 12 PA2 (io) "PA2/USART2_TX,TIM2_CH3,TIM15_CH1,COMP2_OUT,TSC_G1_IO3/ADC_IN2,COMP2_INM6", 13 PA3 (io) "PA3/USART2_RX,TIM2_CH4,TIM15_CH2,TSC_G1_IO4/ADC_IN3,COMP2_INP", 14 PA4 (io) "PA4/SPI1_NSS/I2S1_WS,USART2_CK,TIM14_CH1,TSC_G2_IO1/ADC_IN4,COMP1_INM4,COMP2_INM4,DAC1_OUT", 15 PA5 (io) "PA5/SPI1_SCK/I2S1_CK,CEC,TIM2_CH1_ETR,TSC_G2_IO2/ADC_IN5,COMP1_INM5,COMP2_INM5", 16 PA6 (io) "PA6/SPI1_MISO/I2S1_MCK,TIM3_CH1,TIM1_BKIN,TIM16_CH1,COMP1_OUT,TSC_G2_IO3,EVENTOUT/ADC_IN6", 17 PA7 (io) "PA7/SPI1_MOSI/I2S1_SD,TIM3_CH2,TIM14_CH1,TIM1_CH1N,TIM17_CH1,COMP2_OUT,TSC_G2_IO4,EVENTOUT/ADC_IN7", 18 PB0 (io) "PB0/TIM3_CH3,TIM1_CH2N,TSC_G3_IO2,EVENTOUT/ADC_IN8", 19 PB1 (io) "PB1/TIM3_CH4,TIM14_CH1,TIM1_CH3N,TSC_G3_IO3/ADC_IN9", 20 PB2 (io) "PB2/TSC_G3_IO4", 21 PB10 (io) "PB10/I2C2_SCL,CEC,TIM2_CH3,TSC_SYNC", 22 PB11 (io) "PB11/I2C2_SDA,TIM2_CH4,TSC_G6_IO1,EVENTOUT", 25 PB12 (io) "PB12/SPI2_NSS,TIM1_BKIN,TSC_G6_IO2,EVENTOUT", 26 PB13 (io) "PB13/SPI2_SCK,TIM1_CH1N,TSC_G6_IO3", 27 PB14 (io) "PB14/SPI2_MISO,TIM1_CH2N,TIM15_CH1,TSC_G6_IO4", 28 PB15 (io) "PB15/SPI2_MOSI,TIM1_CH3N,TIM15_CH1N,TIM15_CH2/RTC_REFIN", 29 PA8 (io) "PA8/USART1_CK,TIM1_CH1,EVENTOUT,MCO", 30 PA9 (io) "PA9/USART1_TX,TIM1_CH2,TIM15_BKIN,TSC_G4_IO1", 31 PA10 (io) "PA10/USART1_RX,TIM1_CH3,TIM17_BKIN,TSC_G4_IO2", 32 PA11 (io) "PA11/USART1_CTS,TIM1_CH4,COMP1_OUT,TSC_G4_IO3,EVENTOUT", 33 PA12 (io) "PA12/USART1_RTS,TIM1_ETR,COMP2_OUT,TSC_G4_IO4,EVENTOUT", 34 PA13(SWDAT) (io) "PA13(SWDAT)/IR_OUT,SWDAT", 35 PF6 (io) "PF6/I2C2_SCL", 36 PF7 (io) "PF7/I2C2_SDA", 37 PA14(SWCLK) (io) "PA14(SWCLK)/USART2_TX,SWCLK", 38 PA15 (io) "PA15/SPI1_NSS/I2S1_WS,USART2_RX,TIM2_CH1_ETR,EVENTOUT", 39 PB3 (io) "PB3/SPI1_SCK/I2S1_CK,TIM2_CH2,TSC_G5_IO1,EVENTOUT", 40 PB4 (io) "PB4/SPI1_MISO/I2S1_MCK,TIM3_CH1,TSC_G5_IO2,EVENTOUT", 41 PB5 (io) "PB5/SPI1_MOSI,I2S1_SD,I2C1_SMBA,TIM16_BKIN,TIM3_CH2", 42 PB6 (io) "PB6/I2C1_SCL,USART1_TX,TIM16_CH1N,TSC_G5_IO3", 43 PB7 (io) "PB7/I2C1_SDA,USART1_RX,TIM17_CH1N,TSC_G5_IO4", 44 BOOT0 (in) "Boot memory selection", 45 PB8 (io) "PB8/I2C1_SCL,CEC,TIM16_CH1,TSC_SYNC", 46 PB9 (io) "PB9/I2C1_SDA,IR_OUT,TIM17_CH1,EVENTOUT"
part B pins: 1 VBAT (power) "Backup power supply", 8 VSSA (power) "Analog ground", 9 VDDA (power) "Analog power supply", 23 VSS (power) "Ground", 24 VDD (power) "Digital power supply", 47 VSS (power) "Ground", 48 VDD (power) "Digital power supply"

## STM32F051C6T6TR
designator U?  Supplier Part Number 1: 511-STM32F051C6T6TR  Supplier Part Number 2: STM32F051C6T6TR-ND
ARM Cortex-M0 32-bit MCU, 32 KB Flash, 8 KB Internal RAM, 39 I/Os, 48-Pin LQFP, -40 to 85 degC, Tape and Reel; Operating Frequency(F) (Processor speed) (MHz): 48; I/Os (High Current): 39; D/A Converter: 1; FLASH Size (Prog) (kB): 32; Supply Voltage(Vcc) min (V): 2; Internal RAM Size (kB): 8; ComponentLink2Description: Datasheet; Mounting Technology: Surface Mount; Core: ARM Cortex-M0; ComponentLink1Description: Manufacturer URL; DatasheetVersion: Rev. 5; Package Reference: LQFP48; Package Description: 48-Pin Low Profile Quad Flat Package, Body 7 x 7 mm, Pitch 0.5 mm; Packing: Tape and Reel; ComponentLink1URL: http://www.st.com/; ComponentLink2URL: http://www.st.com/st-web-ui/static/active/en/resource/technical/document/datasheet/DM00039193.pdf; Supplier 1: Mouser; Supplier 2: Digi-Key
footprint STM-LQFP48_L (QFP, 48-Leads, Body 7x7mm, Pitch 0.5mm, IPC High Density)
footprint STM-LQFP48_M (QFP, 48-Leads, Body 7x7mm, Pitch 0.5mm, IPC Low Density)
footprint STM-LQFP48_N (QFP, 48-Leads, Body 7x7mm, Pitch 0.5mm, IPC Medium Density)
pins: 1 VBAT (power) "Backup power supply", 2 PC13 (io) "PC13/RTC_TAMP1,RTC_TS,RTC_OUT,WKUP2", 3 PC14-OSC32_IN(PC14) (io) "PC14-OSC32_IN(PC14)/OSC32_IN", 4 PC15-OSC32_OUT(PC15) (io) "PC15-OSC32_OUT(PC15)/OSC32_OUT", 5 PF0-OSC_IN(PF0) (io) "PF0-OSC_IN(PF0)/OSC_IN", 6 PF1-OSC_OUT(PF1) (io) "PF1-OSC_OUT(PF1)/OSC_OUT", 7 NRST (io) "Device reset input/internal reset output(active low)", 8 VSSA (power) "Analog ground", 9 VDDA (power) "Analog power supply", 10 PA0 (io) "PA0/USART2_CTS,TIM2_CH1_ETR,COMP1_OUT,TSC_G1_IO1/ADC_IN0,COMP1_INM6,RTC_TAMP2,WKUP1", 11 PA1 (io) "PA1/USART2_RTS,TIM2_CH2,TSC_G1_IO2,EVENTOUT/ADC_IN1,COMP1_INP", 12 PA2 (io) "PA2/USART2_TX,TIM2_CH3,TIM15_CH1,COMP2_OUT,TSC_G1_IO3/ADC_IN2,COMP2_INM6", 13 PA3 (io) "PA3/USART2_RX,TIM2_CH4,TIM15_CH2,TSC_G1_IO4/ADC_IN3,COMP2_INP", 14 PA4 (io) "PA4/SPI1_NSS,I2S1_WS,USART2_CK,TIM14_CH1,TSC_G2_IO1/ADC_IN4,COMP1_INM4,COMP2_INM4,DAC_OUT1", 15 PA5 (io) "PA5/SPI1_SCK,I2S1_CK,CEC,TIM2_CH1_ETR,TSC_G2_IO2/ADC_IN5,COMP1_INM5,COMP2_INM5", 16 PA6 (io) "PA6/SPI1_MISO,I2S1_MCK,TIM3_CH1,TIM1_BKIN,TIM16_CH1,COMP1_OUT,TSC_G2_IO3,EVENTOUT/ADC_IN6", 17 PA7 (io) "PA7/SPI1_MOSI,I2S1_SD,TIM3_CH2,TIM14_CH1,TIM1_CH1N,TIM17_CH1,COMP2_OUT,TSC_G2_IO4,EVENTOUT/ADC_IN7", 18 PB0 (io) "PB0/TIM3_CH3,TIM1_CH2N,TSC_G3_IO2,EVENTOUT/ADC_IN8", 19 PB1 (io) "PB1/TIM3_CH4,TIM14_CH1,TIM1_CH3N,TSC_G3_IO3/ADC_IN9", 20 PB2 (io) "PB2/TSC_G3_IO4", 21 PB10 (io) "PB10/I2C2_SCL,CEC,TIM2_CH3,TSC_SYNC", 22 PB11 (io) "PB11/I2C2_SDA,TIM2_CH4,TSC_G6_IO1,EVENTOUT", 23 VSS (power) "Ground", 24 VDD (power) "Digital power supply", 25 PB12 (io) "PB12/SPI2_NSS,TIM1_BKIN,TSC_G6_IO2,EVENTOUT", 26 PB13 (io) "PB13/SPI2_SCK,TIM1_CH1N,TSC_G6_IO3", 27 PB14 (io) "PB14/SPI2_MISO,TIM1_CH2N,TIM15_CH1,TSC_G6_IO4", 28 PB15 (io) "PB15/SPI2_MOSI,TIM1_CH3N,TIM15_CH1N,TIM15_CH2/RTC_REFIN", 29 PA8 (io) "PA8/USART1_CK,TIM1_CH1,EVENTOUT,MCO", 30 PA9 (io) "PA9/USART1_TX,TIM1_CH2,TIM15_BKIN,TSC_G4_IO1", 31 PA10 (io) "PA10/USART1_RX,TIM1_CH3,TIM17_BKIN,TSC_G4_IO2", 32 PA11 (io) "PA11/USART1_CTS,TIM1_CH4,COMP1_OUT,TSC_G4_IO3,EVENTOUT", 33 PA12 (io) "PA12/USART1_RTS,TIM1_ETR,COMP2_OUT,TSC_G4_IO4,EVENTOUT", 34 PA13(SWDIO) (io) "PA13(SWDIO)/IR_OUT,SWDIO", 35 PF6 (io) "PF6/I2C2_SCL", 36 PF7 (io) "PF7/I2C2_SDA", 37 PA14(SWCLK) (io) "PA14(SWCLK)/USART2_TX,SWCLK", 38 PA15 (io) "PA15/SPI1_NSS,I2S1_WS,USART2_RX,TIM2_CH1_ETR,EVENTOUT", 39 PB3 (io) "PB3/SPI1_SCK,I2S1_CK,TIM2_CH2,TSC_G5_IO1,EVENTOUT", 40 PB4 (io) "PB4/SPI1_MISO,I2S1_MCK,TIM3_CH1,TSC_G5_IO2,EVENTOUT", 41 PB5 (io) "PB5/SPI1_MOSI,I2S1_SD,I2C1_SMBA,TIM16_BKIN,TIM3_CH2", 42 PB6 (io) "PB6/I2C1_SCL,USART1_TX,TIM16_CH1N,TSC_G5_IO3", 43 PB7 (io) "PB7/I2C1_SDA,USART1_RX,TIM17_CH1N,TSC_G5_IO4", 44 BOOT0 (in) "Boot memory selection", 45 PB8 (io) "PB8/I2C1_SCL,CEC,TIM16_CH1,TSC_SYNC", 46 PB9 (io) "PB9/I2C1_SDA,IR_OUT,TIM17_CH1,EVENTOUT", 47 VSS (power) "Ground", 48 VDD (power) "Digital power supply"

## STM32F051C6T7
designator U?  Supplier Part Number 1: 511-STM32F051C6T7  Supplier Part Number 2: 497-16725-ND
ARM Cortex-M0 32-bit MCU, 32 KB Flash, 8 KB Internal RAM, 39 I/Os, 48-Pin LQFP, -40 to 105 degC, Tray; Internal RAM Size (kB): 8; I/Os (High Current): 39; Supply Voltage(Vcc) min (V): 2; FLASH Size (Prog) (kB): 32; Operating Frequency(F) (Processor speed) (MHz): 48; D/A Converter: 1; Package Description: 48-Pin Low Profile Quad Flat Package, Body 7 x 7 mm, Pitch 0.5 mm; Mounting Technology: Surface Mount; DatasheetVersion: Rev. 5; ComponentLink2URL: http://www.st.com/st-web-ui/static/active/en/resource/technical/document/datasheet/DM00039193.pdf; Packing: Tray; ComponentLink1URL: http://www.st.com/; ComponentLink1Description: Manufacturer URL; Core: ARM Cortex-M0; Package Reference: LQFP48; ComponentLink2Description: Datasheet; Supplier 1: Mouser; Supplier 2: Digi-Key
footprint STM-LQFP48_L (QFP, 48-Leads, Body 7x7mm, Pitch 0.5mm, IPC High Density)
footprint STM-LQFP48_M (QFP, 48-Leads, Body 7x7mm, Pitch 0.5mm, IPC Low Density)
footprint STM-LQFP48_N (QFP, 48-Leads, Body 7x7mm, Pitch 0.5mm, IPC Medium Density)
pins: 1 VBAT (power) "Backup power supply", 2 PC13 (io) "PC13/RTC_TAMP1,RTC_TS,RTC_OUT,WKUP2", 3 PC14-OSC32_IN(PC14) (io) "PC14-OSC32_IN(PC14)/OSC32_IN", 4 PC15-OSC32_OUT(PC15) (io) "PC15-OSC32_OUT(PC15)/OSC32_OUT", 5 PF0-OSC_IN(PF0) (io) "PF0-OSC_IN(PF0)/OSC_IN", 6 PF1-OSC_OUT(PF1) (io) "PF1-OSC_OUT(PF1)/OSC_OUT", 7 NRST (io) "Device reset input/internal reset output(active low)", 8 VSSA (power) "Analog ground", 9 VDDA (power) "Analog power supply", 10 PA0 (io) "PA0/USART2_CTS,TIM2_CH1_ETR,COMP1_OUT,TSC_G1_IO1/ADC_IN0,COMP1_INM6,RTC_TAMP2,WKUP1", 11 PA1 (io) "PA1/USART2_RTS,TIM2_CH2,TSC_G1_IO2,EVENTOUT/ADC_IN1,COMP1_INP", 12 PA2 (io) "PA2/USART2_TX,TIM2_CH3,TIM15_CH1,COMP2_OUT,TSC_G1_IO3/ADC_IN2,COMP2_INM6", 13 PA3 (io) "PA3/USART2_RX,TIM2_CH4,TIM15_CH2,TSC_G1_IO4/ADC_IN3,COMP2_INP", 14 PA4 (io) "PA4/SPI1_NSS,I2S1_WS,USART2_CK,TIM14_CH1,TSC_G2_IO1/ADC_IN4,COMP1_INM4,COMP2_INM4,DAC_OUT1", 15 PA5 (io) "PA5/SPI1_SCK,I2S1_CK,CEC,TIM2_CH1_ETR,TSC_G2_IO2/ADC_IN5,COMP1_INM5,COMP2_INM5", 16 PA6 (io) "PA6/SPI1_MISO,I2S1_MCK,TIM3_CH1,TIM1_BKIN,TIM16_CH1,COMP1_OUT,TSC_G2_IO3,EVENTOUT/ADC_IN6", 17 PA7 (io) "PA7/SPI1_MOSI,I2S1_SD,TIM3_CH2,TIM14_CH1,TIM1_CH1N,TIM17_CH1,COMP2_OUT,TSC_G2_IO4,EVENTOUT/ADC_IN7", 18 PB0 (io) "PB0/TIM3_CH3,TIM1_CH2N,TSC_G3_IO2,EVENTOUT/ADC_IN8", 19 PB1 (io) "PB1/TIM3_CH4,TIM14_CH1,TIM1_CH3N,TSC_G3_IO3/ADC_IN9", 20 PB2 (io) "PB2/TSC_G3_IO4", 21 PB10 (io) "PB10/I2C2_SCL,CEC,TIM2_CH3,TSC_SYNC", 22 PB11 (io) "PB11/I2C2_SDA,TIM2_CH4,TSC_G6_IO1,EVENTOUT", 23 VSS (power) "Ground", 24 VDD (power) "Digital power supply", 25 PB12 (io) "PB12/SPI2_NSS,TIM1_BKIN,TSC_G6_IO2,EVENTOUT", 26 PB13 (io) "PB13/SPI2_SCK,TIM1_CH1N,TSC_G6_IO3", 27 PB14 (io) "PB14/SPI2_MISO,TIM1_CH2N,TIM15_CH1,TSC_G6_IO4", 28 PB15 (io) "PB15/SPI2_MOSI,TIM1_CH3N,TIM15_CH1N,TIM15_CH2/RTC_REFIN", 29 PA8 (io) "PA8/USART1_CK,TIM1_CH1,EVENTOUT,MCO", 30 PA9 (io) "PA9/USART1_TX,TIM1_CH2,TIM15_BKIN,TSC_G4_IO1", 31 PA10 (io) "PA10/USART1_RX,TIM1_CH3,TIM17_BKIN,TSC_G4_IO2", 32 PA11 (io) "PA11/USART1_CTS,TIM1_CH4,COMP1_OUT,TSC_G4_IO3,EVENTOUT", 33 PA12 (io) "PA12/USART1_RTS,TIM1_ETR,COMP2_OUT,TSC_G4_IO4,EVENTOUT", 34 PA13(SWDIO) (io) "PA13(SWDIO)/IR_OUT,SWDIO", 35 PF6 (io) "PF6/I2C2_SCL", 36 PF7 (io) "PF7/I2C2_SDA", 37 PA14(SWCLK) (io) "PA14(SWCLK)/USART2_TX,SWCLK", 38 PA15 (io) "PA15/SPI1_NSS,I2S1_WS,USART2_RX,TIM2_CH1_ETR,EVENTOUT", 39 PB3 (io) "PB3/SPI1_SCK,I2S1_CK,TIM2_CH2,TSC_G5_IO1,EVENTOUT", 40 PB4 (io) "PB4/SPI1_MISO,I2S1_MCK,TIM3_CH1,TSC_G5_IO2,EVENTOUT", 41 PB5 (io) "PB5/SPI1_MOSI,I2S1_SD,I2C1_SMBA,TIM16_BKIN,TIM3_CH2", 42 PB6 (io) "PB6/I2C1_SCL,USART1_TX,TIM16_CH1N,TSC_G5_IO3", 43 PB7 (io) "PB7/I2C1_SDA,USART1_RX,TIM17_CH1N,TSC_G5_IO4", 44 BOOT0 (in) "Boot memory selection", 45 PB8 (io) "PB8/I2C1_SCL,CEC,TIM16_CH1,TSC_SYNC", 46 PB9 (io) "PB9/I2C1_SDA,IR_OUT,TIM17_CH1,EVENTOUT", 47 VSS (power) "Ground", 48 VDD (power) "Digital power supply"